# Altium schematic symbol library EE19-12V.SchLib: 1 symbol
Pins are listed as number, name and electrical type; pins without a type are passive.

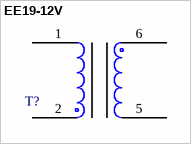
[diagram p0: symbol EE19-12V]

## EE19-12V
designator T?  (value not drawn)
footprint PCBComponent_1
pins: 1, 2, 5, 6